# Altium footprint library drv3d.PcbLib: 1 footprints
Each footprint in its own frame and in the unit in brackets; x right, y up, seen from the top. Pads: shape width x height; smd on the part's side, far side on the other; paste and mask are expansions set on the pad; w line width, h text height; cw(c..) or ccw(c..) is an arc to the next point about the centre after c.
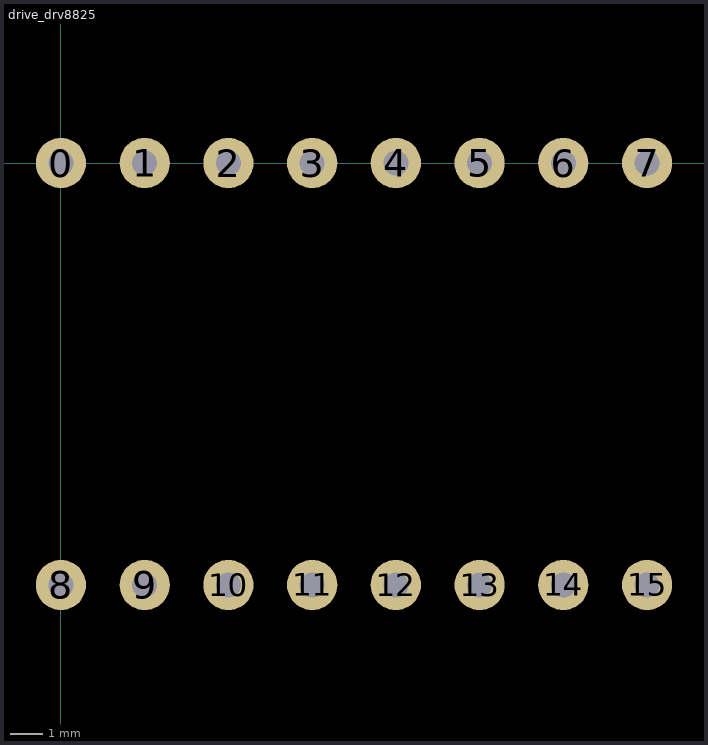
[diagram p0: the footprint, top view; thin cyan lines are the x and y axes]

## drive_drv8825 [mil]
pads (16):
  round 60 hole 30: 0(0,0) 1(100,0) 2(200,0) 3(300,0) 4(400,0) 5(500,0) 6(600,0) 7(700,0) 8(0,-503.94) 9(100,-503.94) 10(200,-503.94) 11(300,-503.94) 12(400,-503.94) 13(500,-503.94) 14(600,-503.94) 15(700,-503.94)
3D body "User Library-A4988.step": height 200.5, standoff -199.5, extent -48.62,-552.76 751.38,47.24